# Altium schematic symbol library hc05.SchLib: 1 symbol
Pins are listed as number, name and electrical type; pins without a type are passive.

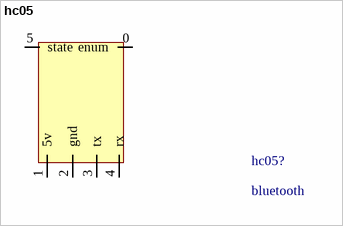
[diagram p0: symbol hc05]

## hc05
designator hc05?, comment bluetooth
bluetooth device hc 05
footprint hc05
pins: 0 enum, 1 5v, 2 gnd, 3 tx, 4 rx, 5 state